# EAGLE library part DM3AT-SF-PEJM5 (library DM3AT-SF-PEJM5)
DM3 Series 8 Position Right Angle SMT Push Push Ejection MicroSD Card Connector
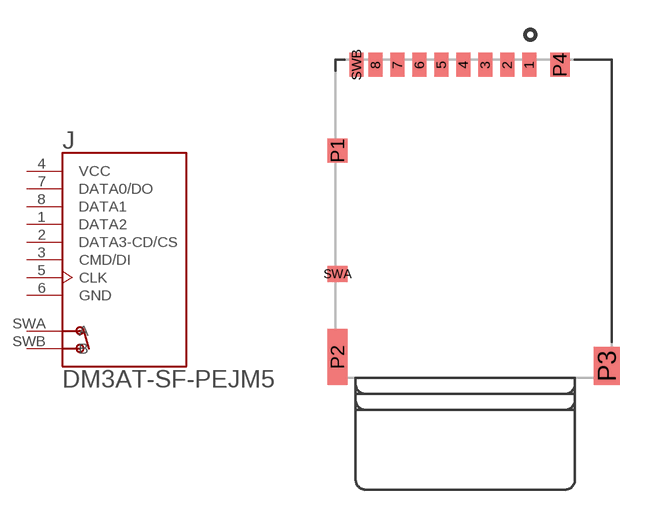
[diagram p0: symbol with the pads of HRS_DM3AT-SF-PEJM5; footprint HRS_DM3AT-SF-PEJM5]

Designator prefix J

## DM3AT-SF-PEJM5 (Description: DM3 RA SMT microSD memory card push/push; Digi-Key_Part_Number: HR1964CT-ND; Digi-Key_Purchase_URL: https://www.digikey.ca/product-detail/en/hirose-electric-co-ltd/DM3AT-SF-PEJM5/HR1964CT-ND/2533566?utm_source=snapeda&utm_medium=aggregator&utm_campaign=symbol; MF: Hirose; MP: DM3AT-SF-PEJM5; Package: None)  [HRS_DM3AT-SF-PEJM5]
1  DATA2
2  DATA3-CD/CS
3  CMD/DI
4  VCC  pwr
5  CLK
6  GND  pwr
7  DATA0/DO
8  DATA1
SWA  A
SWB  B

## Footprint HRS_DM3AT-SF-PEJM5 (pad centres in mm)
Micro SD card holder with push-to-eject feature.
smd 0.7 x 1.2: 1 3.2,0; 2 2.1,0; 3 1,0; 4 -0.1,0; 5 -1.2,0; 6 -2.3,0; 7 -3.4,0; 8 -4.5,0; SWB -5.45,0
smd 1 x 1.2: P1 -6.4,-4.3; P4 4.75,0
smd 1 x 2.8: P2 -6.4,-14.65
smd 1.3 x 1.9: P3 7.1,-15.1
smd 1 x 0.8: SWA -6.4,-10.5